# Altium footprint library CKCS8040.PCBLIB: 1 footprints
Each footprint in its own frame and in the unit in brackets; x right, y up, seen from the top. Pads: shape width x height; smd on the part's side, far side on the other; paste and mask are expansions set on the pad; w line width, h text height; cw(c..) or ccw(c..) is an arc to the next point about the centre after c.
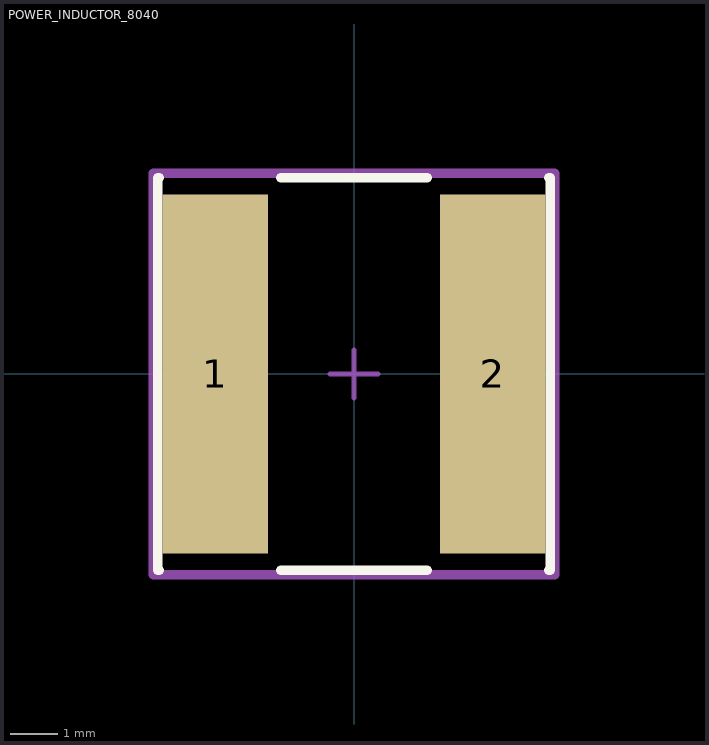
[diagram p0: the footprint, top view; thin cyan lines are the x and y axes]

## POWER_INDUCTOR_8040 [mm]
pads (2):
  rect 2.2x7.5 smd paste+0 mask+0: 1(-2.9,0) 2(2.9,0)
Top Overlay:
  lines w0.2: -4.075,-4.1 -4.1,-4.1 -4.1,4.1 -4.075,4.1 ; -1.525,-4.1 1.525,-4.1 ; -1.525,4.1 1.525,4.1 ; 4.075,-4.1 4.1,-4.1 4.1,4.1 4.075,4.1
Top Assembly:
  lines w0.2: -4.2,-4.2 -4.2,4.2 4.2,4.2 4.2,-4.2 -4.2,-4.2
Top Courtyard:
  lines w0.2: -4.2,-4.2 -4.2,4.2 4.2,4.2 4.2,-4.2 -4.2,-4.2
Top Designator:
  text ".Designator" at 0,-0.001 h1
Top Component Center:
  lines w0.1: -0.5,0 0.5,0 ; 0,-0.5 0,0.5
3D body "Ind_Taiyo_Yuden_NR8040T100M_eec.STEP": height 0.25, standoff 0, extent -4.2,-4.2 4.2,4.2